# EAGLE library part PINHEAD_1X16 (library pinhead)
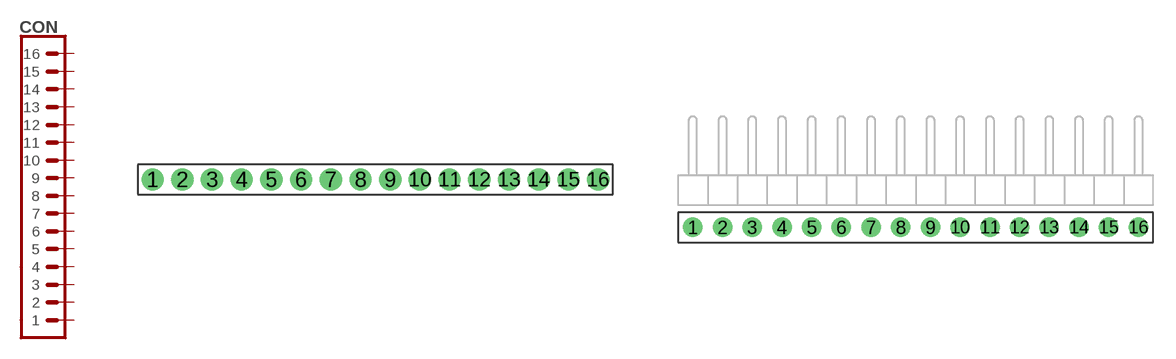
[diagram p12: symbol with the pads of PBS2-16; footprints PBS2-16, PLS2-16R]

Designator prefix CON

## PINHEAD_1X16-PBS2 (MANF: Connfly electronic; MANF#: DS1026-01-1x15)  [PBS2-16]
1  1  pas
2  2  pas
3  3  pas
4  4  pas
5  5  pas
6  6  pas
7  7  pas
8  8  pas
9  9  pas
10  10  pas
11  11  pas
12  12  pas
13  13  pas
14  14  pas
15  15  pas
16  16  pas

## PINHEAD_1X16-PLS2-R  [PLS2-16R]
Pads as for PBS2-16

## PINHEAD_1X16-2.54  [PLS16]
Pads as for PBS2-16

## PINHEAD_1X16-2.54-FEMALE  [PBS16]
Pads as for PBS2-16

## Footprint PBS2-16 (pad centres in mm)
3D model <https://grabcad.com/library/pbs2-connectors-h6-35-1>
drill 0.8 pad 1.5: 1 -15,0; 2 -13,0; 3 -11,0; 4 -9,0; 5 -7,0; 6 -5,0; 7 -3,0; 8 -1,0; 9 1,0; 10 3,0; 11 5,0; 12 7,0; 13 9,0; 14 11,0; 15 13,0; 16 15,0

## Footprint PLS2-16R (pad centres in mm)
drill 0.8 pad 1.3: 1 -15,0; 2 -13,0; 3 -11,0; 4 -9,0; 5 -7,0; 6 -5,0; 7 -3,0; 8 -1,0; 9 1,0; 10 3,0; 11 5,0; 12 7,0; 13 9,0; 14 11,0; 15 13,0; 16 15,0

## Footprint PLS16 (pad centres in mm)
3D model <https://grabcad.com/library/pls-connectors-1>
drill 1 pad 1.88: 1 -19.05,0; 2 -16.51,0; 3 -13.97,0; 4 -11.43,0; 5 -8.89,0; 6 -6.35,0; 7 -3.81,0; 8 -1.27,0; 9 1.27,0; 10 3.81,0; 11 6.35,0; 12 8.89,0; 13 11.43,0; 14 13.97,0; 15 16.51,0; 16 19.05,0

## Footprint PBS16 (pad centres in mm)
3D model <https://grabcad.com/library/pbs-connectors-1>
drill 1 pad 1.7: 1 -19.05,0; 2 -16.51,0; 3 -13.97,0; 4 -11.43,0; 5 -8.89,0; 6 -6.35,0; 7 -3.81,0; 8 -1.27,0; 9 1.27,0; 10 3.81,0; 11 6.35,0; 12 8.89,0; 13 11.43,0; 14 13.97,0; 15 16.51,0; 16 19.05,0